# Altium footprint library cap.PcbLib: 2 footprints
Each footprint in its own frame and in the unit in brackets; x right, y up, seen from the top. Pads: shape width x height; smd on the part's side, far side on the other; paste and mask are expansions set on the pad; w line width, h text height; cw(c..) or ccw(c..) is an arc to the next point about the centre after c.
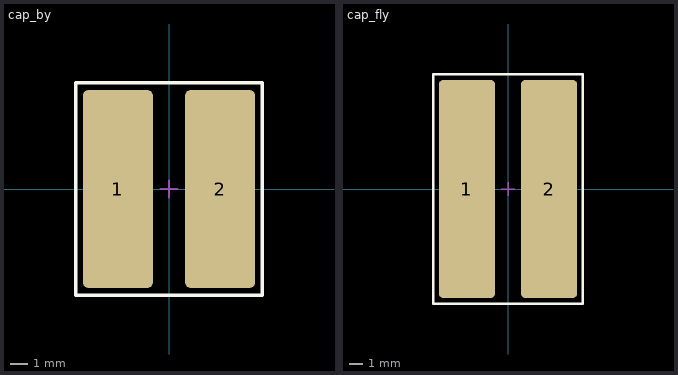
[diagram p0: the footprints below, top view; thin cyan lines are the x and y axes]

## cap_by [mm]
height 1.45
pads (2):
  rrect15% 4.1x11.6 smd: 1(-3,0) 2(3,0)
Top Overlay:
  lines w0.2: -5.461,-6.223 5.461,-6.223 5.461,6.223 -5.461,6.223 -5.461,-6.223
Mechanical 15:
  lines w0.1: -0.5,0 0.5,0 ; 0,-0.5 0,0.5
3D body "CAPM7343X30N.step": height 3, standoff 0, extent -3.97,0.889 3.97,5.389
3D body "CAPC3225X28N.step": height 2.8, standoff 0, extent -1.75,-2.289 1.75,0.511
3D body "CAPC3225X28N.step": height 2.8, standoff 0, extent -1.75,-5.464 1.75,-2.664

## cap_fly [mm]
pads (2):
  rrect15% 4.1x15.9 smd: 1(-3,0) 2(3,0)
Top Overlay:
  lines w0.2: -5.461,-8.382 5.461,-8.382 5.461,8.382 -5.461,8.382 -5.461,-8.382
Mechanical 15:
  lines w0.1: -0.5,0 0.5,0 ; 0,-0.5 0,0.5
3D body "CAPM7343X30N.step": height 3, standoff 0, extent -3.97,-2.25 3.97,2.25
3D body "CAPM7343X30N.step": height 3, standoff 0, extent -3.97,2.85 3.97,7.35
3D body "CAPM7343X30N.step": height 3, standoff 0, extent -3.97,-7.35 3.97,-2.85